# Altium schematic symbol library BUF602IDBVT.SchLib: 1 symbol
Pins are listed as number, name and electrical type; pins without a type are passive.

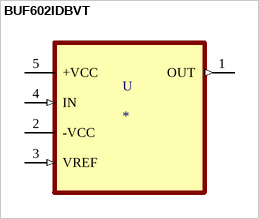
[diagram p0: symbol BUF602IDBVT]

## BUF602IDBVT
designator U
Buffer Amplifier 1 Circuit SOT-23-5; MP: BUF602IDBVT; MF: Texas Instruments; DigiKey-Purchase-URL: https://snapeda.com/shop?store=DigiKey&id=11391; Texas_Instruments-Purchase-URL: https://snapeda.com/shop?store=Texas+Instruments&id=11391; Package: SOT-23-5 Texas Instruments; Mouser-Purchase-URL: https://snapeda.com/shop?store=Mouser&id=11391; SnapEDA_Link: https://www.snapeda.com/parts/BUF602IDBVT/Texas%20Instruments/view-part/11391/?ref=snap; Value: *; Digi-Key_Part_Number: 296-19310-1-ND
footprint SOT95P280X145-5N
pins: 1 OUT (out), 2 -VCC (power), 3 VREF (in), 4 IN (in), 5 +VCC (power)